# Altium footprint library custom.PcbLib: 10 footprints
Each footprint in its own frame and in the unit in brackets; x right, y up, seen from the top. Pads: shape width x height; smd on the part's side, far side on the other; paste and mask are expansions set on the pad; w line width, h text height; cw(c..) or ccw(c..) is an arc to the next point about the centre after c.
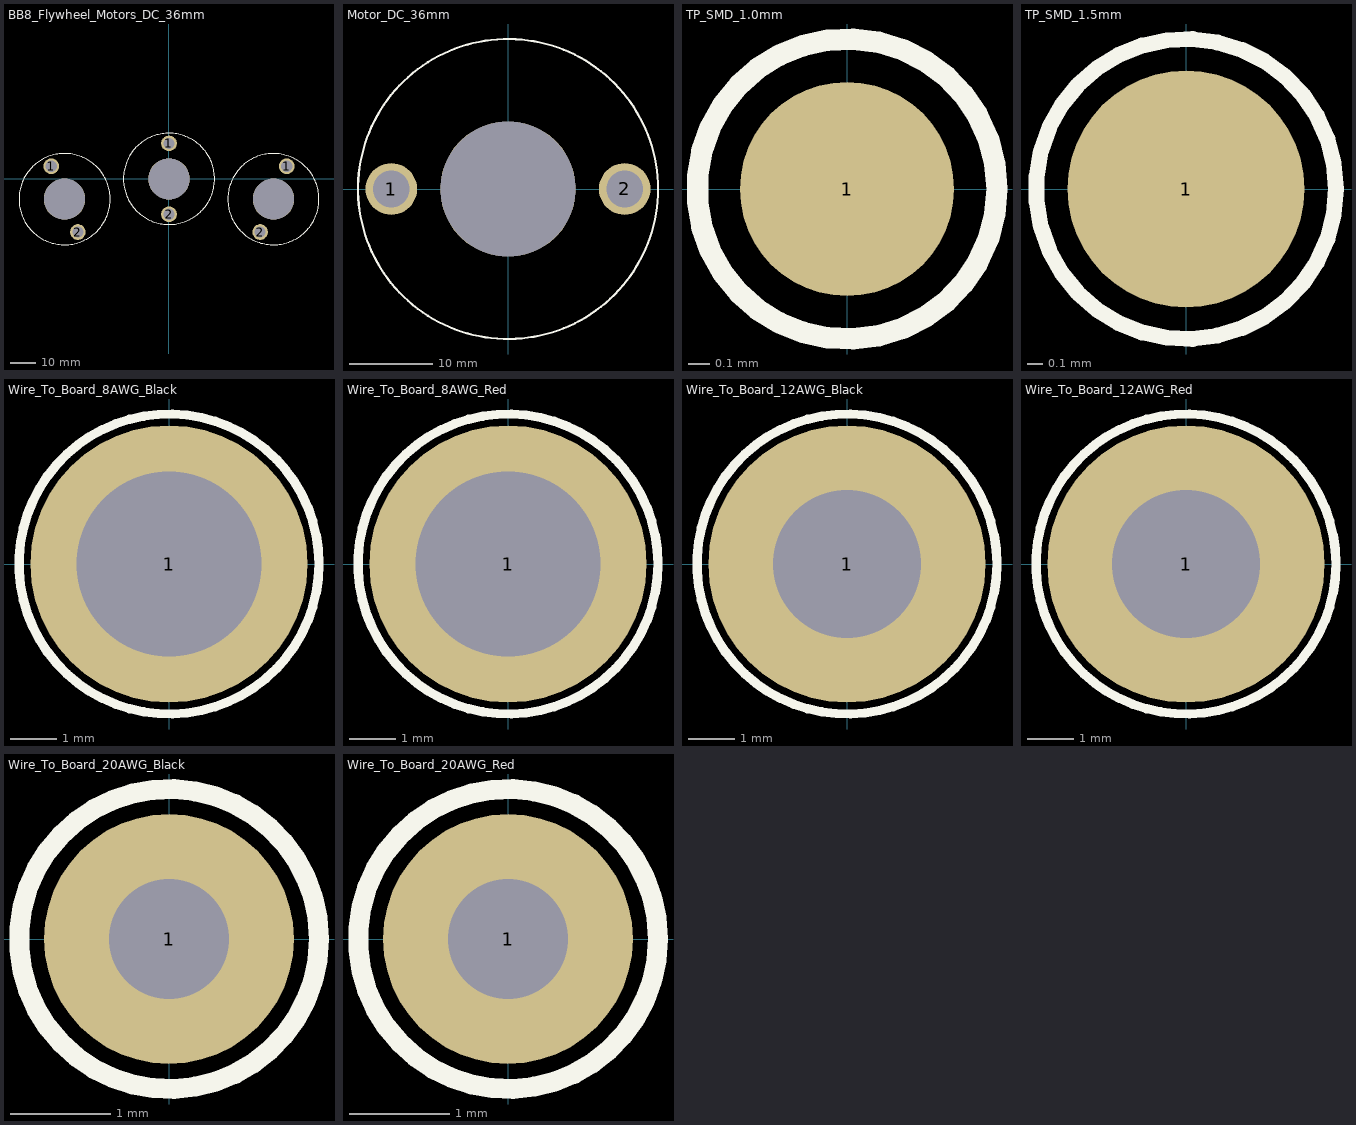
[diagram p0: the footprints below, top view; thin cyan lines are the x and y axes]

## BB8_Flywheel_Motors_DC_36mm [mm] "3 motors all working together to spin the BB8 Flywheel"
pads (9):
  round 6.2 hole 4.4: 1(-46.451,4.971) 1(0,14) 1(46.451,4.971) 2(-35.962,-20.99) 2(0,-14) 2(35.962,-20.99)
  round 16.25 hole 16.25 unplated: ""(-41.207,-8.01) ""(0,0) ""(41.207,-8.01)
Top Overlay:
  circle w0.254: c41.207,-8.01 r18
  circle w0.254: c0,0 r18
  circle w0.254: c-41.207,-8.01 r18
3D body "flywheel motor mount.stp": height 98.01, standoff -5.99, extent -148.097,-189.477 148.097,38

## Motor_DC_36mm [mm] "36 mm diameter brushed DC gear motor"
pads (3):
  round 6.2 hole 4.4: 1(-14,0) 2(14,0)
  round 16.25 hole 16.25 unplated: ""(0,0)
Top Overlay:
  circle w0.254: c0,0 r18
3D body "1621RPM motor.stp": height 98.01, standoff -5.99, extent -26.153,-26.153 26.153,26.153

## TP_SMD_1.0mm [mm] "1mm diameter SMD test point"
pads (1):
  round 1 smd paste-10: 1(0,0)
Top Overlay:
  circle w0.1: c0,0 r0.7

## TP_SMD_1.5mm [mm] "1.5mm diameter SMD test point"
pads (1):
  round 1.5 smd paste-10: 1(0,0)
Top Overlay:
  circle w0.1: c0,0 r0.95

## Wire_To_Board_8AWG_Black [mm] "12AWG Wire To Board (Black)"
pads (1):
  round 6 hole 4: 1(0,0)
Top Overlay:
  circle w0.2: c0,0 r3.25
3D body: height 26, standoff 1, extent -2.75,-2.75 2.75,2.75
3D body: height 25, standoff -5, extent -1.742,-1.747 1.744,1.747

## Wire_To_Board_8AWG_Red [mm] "12AWG Wire To Board (Red)"
pads (1):
  round 6 hole 4: 1(0,0)
Top Overlay:
  circle w0.2: c0,0 r3.25
3D body: height 25, standoff -5, extent -1.742,-1.747 1.744,1.747
3D body: height 26, standoff 1, extent -2.75,-2.75 2.75,2.75

## Wire_To_Board_12AWG_Black [mm] "12AWG Wire To Board (Black)"
pads (1):
  round 6 hole 3.2: 1(0,0)
Top Overlay:
  circle w0.2: c0,0 r3.25
3D body: height 25, standoff -5, extent -1.494,-1.497 1.494,1.497
3D body: height 26, standoff 1, extent -2.5,-2.497 2.5,2.497

## Wire_To_Board_12AWG_Red [mm] "12AWG Wire To Board (Red)"
pads (1):
  round 6 hole 3.2: 1(0,0)
Top Overlay:
  circle w0.2: c0,0 r3.25
3D body: height 25, standoff -5, extent -1.494,-1.497 1.494,1.497
3D body: height 26, standoff 1, extent -2.5,-2.497 2.5,2.497

## Wire_To_Board_20AWG_Black [mm] "20AWG Wire To Board (Black)"
pads (1):
  round 2.5 hole 1.2: 1(0,0)
Top Overlay:
  circle w0.2: c0,0 r1.5
3D body: height 26, standoff 1, extent -0.992,-0.998 1,0.998
3D body: height 22, standoff -3, extent -0.502,-0.499 0.494,0.499

## Wire_To_Board_20AWG_Red [mm] "20AWG Wire To Board (Red)"
pads (1):
  round 2.5 hole 1.2: 1(0,0)
Top Overlay:
  circle w0.2: c0,0 r1.5
3D body: height 26, standoff 1, extent -0.992,-0.998 1,0.998
3D body: height 22, standoff -3, extent -0.502,-0.499 0.494,0.499